# EAGLE library part ARDUINO_MEGA (library ARDUINO_MEGA)
Arduino MEGA 2560 Created by Aadesh Borate Features : Microcontroller ATmega2560 Operating Voltage (logic level) : 5 V Input Voltage (Recommended) : 7-12 V Digital I/O Pins : 54 (of which 15 provide PWM output) Analog Input Pins : 16 DC Current per I/O Pin : 20 mA Flash Memory : 256 KB of which 8 KB used by bootloader SRAM: 8 KB EEPROM: 4 KB Clock Speed: 16 MHz Dimensions : 101.52 mm × 53.3 mm Buy this module at Robu.in <https://robu.in/product/atmel-mcu-atmega16u2-mega-2560-r3-improved-version-ch340g-cable-arduino-mega-2560-transparent-acrylic-case-arduino-mega-2560/> <
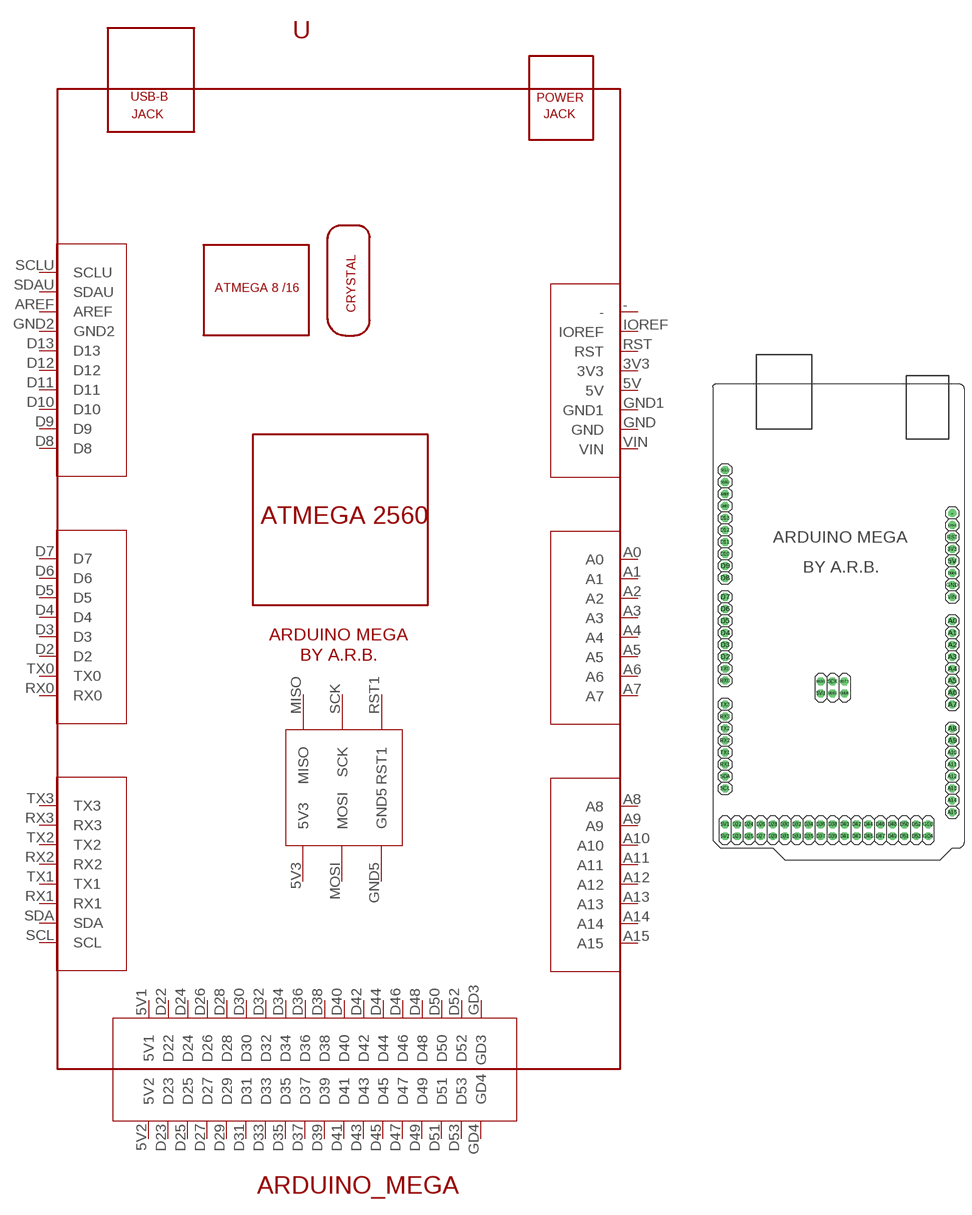
[diagram p0: symbol with the pads of ARDUINO_MEGA; footprint ARDUINO_MEGA]

Designator prefix -

## ARDUINO_MEGA  [ARDUINO_MEGA]
3V3  3V3
5V  5V
5V1  5V1
5V2  5V2
5V3  5V3
-  -
A0  A0
A1  A1
A2  A2
A3  A3
A4  A4
A5  A5
A6  A6
A7  A7
A8  A8
A9  A9
A10  A10
A11  A11
A12  A12
A13  A13
A14  A14
A15  A15
AREF  AREF
D2  D2
D3  D3
D4  D4
D5  D5
D6  D6
D7  D7
D8  D8
D9  D9
D10  D10
D11  D11
D12  D12
D13  D13
D22  D22
D23  D23
D24  D24
D25  D25
D26  D26
D27  D27
D28  D28
D29  D29
D30  D30
D31  D31
D32  D32
D33  D33
D34  D34
D35  D35
D36  D36
D37  D37
D38  D38
D39  D39
D40  D40
D41  D41
D42  D42
D43  D43
D44  D44
D45  D45
D46  D46
D47  D47
D48  D48
D49  D49
D50  D50
D51  D51
D52  D52
D53  D53
GD3  GD3
GD4  GD4
GND  GND
GND1  GND1
GND2  GND2
GND5  GND5
IOREF  IOREF
MISO  MISO
MOSI  MOSI
RST  RST
RST1  RST1
RX0  RX0
RX1  RX1
RX2  RX2
RX3  RX3
SCK  SCK
SCL  SCL
SCLU  SCLU
SDA  SDA
SDAU  SDAU
TX0  TX0
TX1  TX1
TX2  TX2
TX3  TX3
VIN  VIN

## Footprint ARDUINO_MEGA (pad centres in mm)
Arduino MEGA 2560 Created by Aadesh Borate Features : Microcontroller ATmega2560 Operating Voltage (logic level) : 5 V Input Voltage (Recommended) : 7-12 V Digital I/O Pins : 54 (of which 15 provide PWM output) Analog Input Pins : 16 DC Current per I/O Pin : 20 mA Flash Memory : 256 KB of which 8 KB used by bootloader SRAM: 8 KB EEPROM: 4 KB Clock Speed: 16 MHz Dimensions : 101.52 mm × 53.3 mm Buy this module at Robu.in <https://robu.in/product/atmel-mcu-atmega16u2-mega-2560-r3-improved-version-ch340g-cable-arduino-mega-2560-transparent-acrylic-case-arduino-mega-2560/> <
drill 1.13 octagon: 3V3 24.13,21.59; 5V 24.13,19.05; 5V1 -24.13,-36.83; 5V2 -24.13,-39.37; 5V3 -3.81,-9.017; - 24.13,29.21; A0 24.13,6.35; A1 24.13,3.81; A2 24.13,1.27; A3 24.13,-1.27; A4 24.13,-3.81; A5 24.13,-6.35; A6 24.13,-8.89; A7 24.13,-11.43; A8 24.13,-16.51; A9 24.13,-19.05; A10 24.13,-21.59; A11 24.13,-24.13; A12 24.13,-26.67; A13 24.13,-29.21; A14 24.13,-31.75; A15 24.13,-34.29; AREF -24.13,33.274; D2 -24.13,-1.27; D3 -24.13,1.27; D4 -24.13,3.81; D5 -24.13,6.35; D6 -24.13,8.89; D7 -24.13,11.43; D8 -24.13,15.494; D9 -24.13,18.034; D10 -24.13,20.574; D11 -24.13,23.114; D12 -24.13,25.654; D13 -24.13,28.194; D22 -21.59,-36.83; D23 -21.59,-39.37; D24 -19.05,-36.83; D25 -19.05,-39.37; D26 -16.51,-36.83; D27 -16.51,-39.37; D28 -13.97,-36.83; D29 -13.97,-39.37; D30 -11.43,-36.83; D31 -11.43,-39.37; D32 -8.89,-36.83; D33 -8.89,-39.37; D34 -6.35,-36.83; D35 -6.35,-39.37; D36 -3.81,-36.83; D37 -3.81,-39.37; D38 -1.27,-36.83; D39 -1.27,-39.37; D40 1.27,-36.83; D41 1.27,-39.37; D42 3.81,-36.83; D43 3.81,-39.37; D44 6.35,-36.83; D45 6.35,-39.37; D46 8.89,-36.83; D47 8.89,-39.37; D48 11.43,-36.83; D49 11.43,-39.37; D50 13.97,-36.83; D51 13.97,-39.37; D52 16.51,-36.83; D53 16.51,-39.37; GD3 19.05,-36.83; GD4 19.05,-39.37; GND 24.13,13.97; GND1 24.13,16.51; GND2 -24.13,30.734; GND5 1.245,-9.017; IOREF 24.13,26.67; MISO -3.81,-6.502; MOSI -1.295,-9.017; RST 24.13,24.13; RST1 1.245,-6.502; RX0 -24.13,-6.35; RX1 -24.13,-24.13; RX2 -24.13,-19.05; RX3 -24.13,-13.97; SCK -1.295,-6.502; SCL -24.13,-29.21; SCLU -24.13,38.354; SDA -24.13,-26.67; SDAU -24.13,35.814; TX0 -24.13,-3.81; TX1 -24.13,-21.59; TX2 -24.13,-16.51; TX3 -24.13,-11.43; VIN 24.13,11.43